# EAGLE library part #NEBULA (library PygmyBoards)
Nebula Board and Shield Footprint Pads This is the only absolutely required part for the footprint. The parts in "#NEBULA-PART" are merely aesthetic. A circular board outline should be .001" thick and 1.005" in diameter (Reference circle on the Document (48) layer provided).
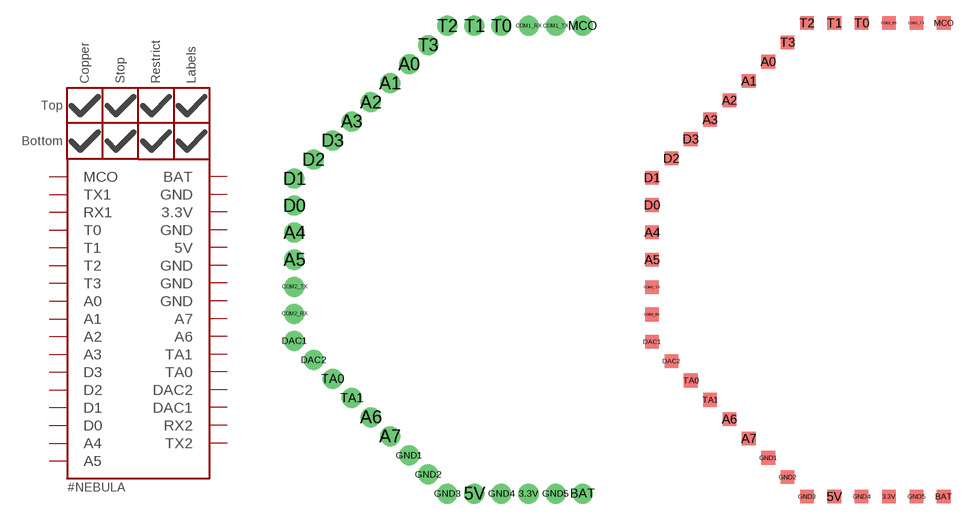
[diagram p0: symbol with the pads of #NEBULA-PTH; footprints #NEBULA-PTH, #NEBULA-SMD-TOP]

Designator prefix NEBULA

## #NEBULAPTH  [#NEBULA-PTH]
3.3V  3.3V
5V  5V
A0  A0
A1  A1
A2  A2
A3  A3
A4  A4
A5  A5
A6  A6
A7  A7
BAT  BAT
COM1_RX  RX1
COM1_TX  TX1
COM2_RX  RX2
COM2_TX  TX2
D0  D0
D1  D1
D2  D2
D3  D3
DAC1  DAC1
DAC2  DAC2
GND1  GND
GND2  GND
GND3  GND
GND4  GND
GND5  GND
MCO  MCO
T0  T0
T1  T1
T2  T2
T3  T3
TA0  TA0
TA1  TA1

## #NEBULASMD-TOP  [#NEBULA-SMD-TOP]
Pads as for #NEBULA-PTH

## #NEBULASMD-BOTTOM  [#NEBULA-SMD-BOTT]
Pads as for #NEBULA-PTH

## Footprint #NEBULA-PTH (pad centres in mm)
Plated through holes
drill 1.016 pad 1.88 round: 3.3V -25.637,-47.388; 5V -30.716,-47.388; A0 -36.848,-7.004; A1 -38.645,-8.8; A2 -40.44,-10.596; A3 -42.237,-12.392; A4 -47.625,-22.86; A5 -47.625,-25.4; A6 -40.44,-40.204; A7 -38.645,-42; BAT -20.557,-47.388; COM1_RX -25.636,-3.412; COM1_TX -23.096,-3.412; COM2_RX -47.625,-30.48; COM2_TX -47.625,-27.94; D0 -47.625,-20.32; D1 -47.625,-17.78; D2 -45.829,-15.984; D3 -44.032,-14.188; DAC1 -47.625,-33.02; DAC2 -45.829,-34.816; GND1 -36.848,-43.796; GND2 -35.052,-45.592; GND3 -33.256,-47.388; GND4 -28.177,-47.388; GND5 -23.097,-47.388; MCO -20.556,-3.412; T0 -28.176,-3.412; T1 -30.716,-3.412; T2 -33.256,-3.412; T3 -35.052,-5.208; TA0 -44.032,-36.612; TA1 -42.237,-38.408

## Footprint #NEBULA-SMD-TOP (pad centres in mm)
Top surface mount pads (Layer 1)
smd 1.27 x 1.27: 3.3V -25.636,-44.848; 5V -30.716,-44.848; A0 -36.848,-4.464; A1 -38.645,-6.26; A2 -40.44,-8.056; A3 -42.237,-9.852; A4 -47.625,-20.32; A5 -47.625,-22.86; A6 -40.44,-37.664; A7 -38.645,-39.46; BAT -20.556,-44.848; COM1_RX -25.636,-0.872; COM1_TX -23.096,-0.872; COM2_RX -47.625,-27.94; COM2_TX -47.625,-25.4; D0 -47.625,-17.78; D1 -47.625,-15.24; D2 -45.829,-13.444; D3 -44.032,-11.648; DAC1 -47.625,-30.48; DAC2 -45.829,-32.276; GND1 -36.848,-41.256; GND2 -35.052,-43.052; GND3 -33.256,-44.848; GND4 -28.176,-44.848; GND5 -23.096,-44.848; MCO -20.556,-0.872; T0 -28.176,-0.872; T1 -30.716,-0.872; T2 -33.256,-0.872; T3 -35.052,-2.668; TA0 -44.032,-34.072; TA1 -42.237,-35.868

## Footprint #NEBULA-SMD-BOTT (pad centres in mm)
Bottom surface mount pads (Layer 16)
smd 1.27 x 1.27 bottom: 3.3V -25.636,-47.388; 5V -30.716,-47.388; A0 -36.848,-7.004; A1 -38.645,-8.8; A2 -40.44,-10.596; A3 -42.237,-12.392; A4 -47.625,-22.86; A5 -47.625,-25.4; A6 -40.44,-40.204; A7 -38.645,-42; BAT -20.556,-47.388; COM1_RX -25.636,-3.412; COM1_TX -23.096,-3.412; COM2_RX -47.625,-30.48; COM2_TX -47.625,-27.94; D0 -47.625,-20.32; D1 -47.625,-17.78; D2 -45.829,-15.984; D3 -44.032,-14.188; DAC1 -47.625,-33.02; DAC2 -45.829,-34.816; GND1 -36.848,-43.796; GND2 -35.052,-45.592; GND3 -33.256,-47.388; GND4 -28.176,-47.388; GND5 -23.096,-47.388; MCO -20.556,-3.412; T0 -28.176,-3.412; T1 -30.716,-3.412; T2 -33.256,-3.412; T3 -35.052,-5.208; TA0 -44.032,-36.612; TA1 -42.237,-38.408